# EAGLE library part APDS-9800 (library robotter_ic)
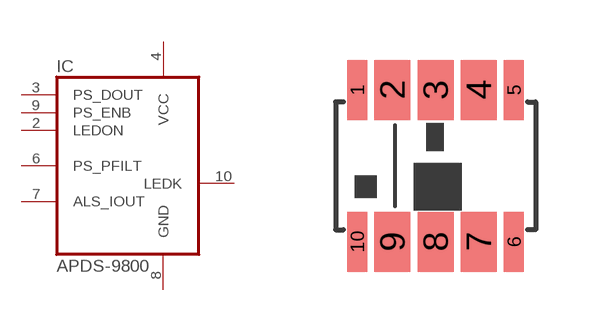
[diagram p19: symbol with the pads of APDS-9800; footprint APDS-9800]

Designator prefix IC

## APDS-9800-021 (MOUSER: 630-APDS-9800-021; RS: 714-2707)  [APDS-9800]
2  LEDON
3  PS_DOUT
4  VCC
6  PS_PFILT
7  ALS_IOUT  in
8  GND  in
9  PS_ENB  out
10  LEDK  in

## Footprint APDS-9800 (pad centres in mm)
smd 0.5 x 1.5: 1 -1.96,1.9; 5 1.96,1.9; 6 1.96,-1.9; 10 -1.96,-1.9
smd 0.9 x 1.5: 2 -1.08,1.9; 3 0,1.9; 4 1.08,1.9; 7 1.08,-1.9; 8 0,-1.9; 9 -1.08,-1.9